# EAGLE library part MCP6H04 (library omcOpAmp)
MCP6H02 - 1.2 MHz, 16V Op Amps - Microchip Input Offset Voltage: ±0.7 mV (typical) Quiescent Current: 135 μA (typical) Common Mode Rejection Ratio: 100 dB (typical) Power Supply Rejection Ratio: 102 dB (typical) Rail-to-Rail Output Supply Voltage Range:: Single-Supply Operation: 3.5V to 16V Dual-Supply Operation: ±1.75V to ±8V Gain Bandwidth Product: 1.2 MHz (typical) Slew Rate: 0.8V/μs (typical) Unity Gain Stable Extended Temperature Range: -40°C to +125°C No Phase Reversal Datasheet: Microchip <http://ww1.microchip.com/downloads/en/devicedoc/22243d.pdf> Reichelt <https://cdn-reichelt.de/documents/datenblatt/A200/MCP6H01-2-4.pdf>
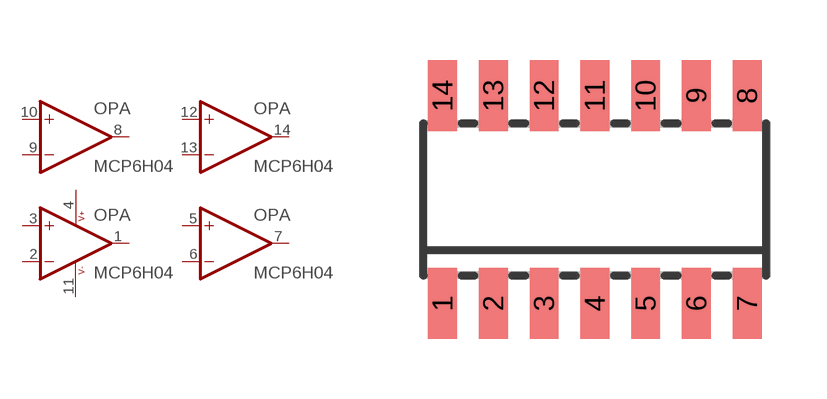
[diagram p3: symbol with the pads of SOIC14; footprint SOIC14]

Designator prefix OPA; gates G$1=OPV G$2=OPV G$3=OPV G$4=OPV G$5=PWR

## MCP6H04 (DIST#REICHELT#: MCP 6H04-E/SL; VALUE: MCP6H04; VENDOR#: Microchip,MCP6H04E)  [SOIC14]
1  G$1:OUT  out
2  G$1:-IN  in
3  G$1:+IN  in
4  G$5:V+  pwr
5  G$2:+IN  in
6  G$2:-IN  in
7  G$2:OUT  out
8  G$3:OUT  out
9  G$3:-IN  in
10  G$3:+IN  in
11  G$5:V-  pwr
12  G$4:+IN  in
13  G$4:-IN  in
14  G$4:OUT  out

## Footprint SOIC14 (pad centres in mm)
SOIC14 SMD 8.5mm×6.2mm Mechanical <http://glacier.lbl.gov/gtp/DOM/dataSheets/soic14_dim.pdf> Wikipedia <https://en.wikipedia.org/wiki/Small_Outline_Integrated_Circuit>
smd 0.72 x 1.78: 1 0.635,1.21; 2 1.905,1.21; 3 3.175,1.21; 4 4.445,1.21; 5 5.715,1.21; 6 6.985,1.21; 7 8.255,1.21; 8 8.255,6.41; 9 6.985,6.41; 10 5.715,6.41; 11 4.445,6.41; 12 3.175,6.41; 13 1.905,6.41; 14 0.635,6.41